# EAGLE library part 750342230 (library wurth_electronics_midcom_inc_v2-1)
Package Style: EE16/8/5 Mounting: THT Pins: 14 pins Bobbin: 070-5813 Best pinouts for production vary per application. Please contact Wurth Electronics Midcom, Inc. for assistance with your custom design. Website: Wurth Electronics Midcom <http://www.we-online.com/midcom> Contact us Wurth Electronics Midcom, Inc. 121 Airport Dr. Watertown, SD 57201 Phone: (605) 886-4385 Fax: (605) 886-4486 E-Mail: midcom@we-online.com
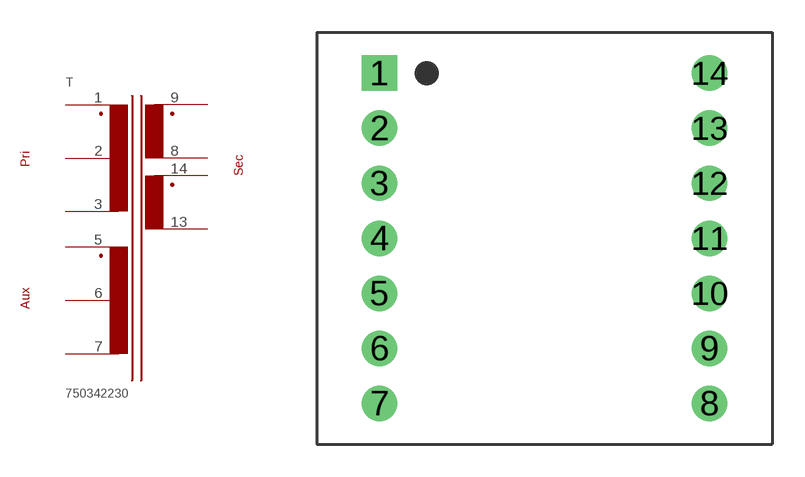
[diagram p79: symbol with the pads of EE16/8/5_THT_H_14PIN_(5813); footprint EE16/8/5_THT_H_14PIN_(5813)]

Designator prefix T

## 750342230  [EE16/8/5_THT_H_14PIN_(5813)]
1  1  pas
2  2  pas
3  3  pas
5  5  pas
6  6  pas
7  7  pas
8  8  pas
9  9  pas
13  13  pas
14  14  pas

## Footprint EE16/8/5_THT_H_14PIN_(5813) (pad centres in mm)
Package Style: EE16/8/5 Mounting: THT Pins: 14 Bobbin: 070-5813
drill 1.092 square: 1 -7.62,7.62
drill 1.092: 2 -7.62,5.08; 3 -7.62,2.54; 4 -7.62,0; 5 -7.62,-2.54; 6 -7.62,-5.08; 7 -7.62,-7.62; 8 7.62,-7.62; 9 7.62,-5.08; 10 7.62,-2.54; 11 7.62,0; 12 7.62,2.54; 13 7.62,5.08; 14 7.62,7.62